# Altium footprint library PcbLib.PcbLib: 23 footprints (part 1 of 2)
Each footprint in its own frame and in the unit in brackets; x right, y up, seen from the top. Pads: shape width x height; smd on the part's side, far side on the other; paste and mask are expansions set on the pad; w line width, h text height; cw(c..) or ccw(c..) is an arc to the next point about the centre after c.
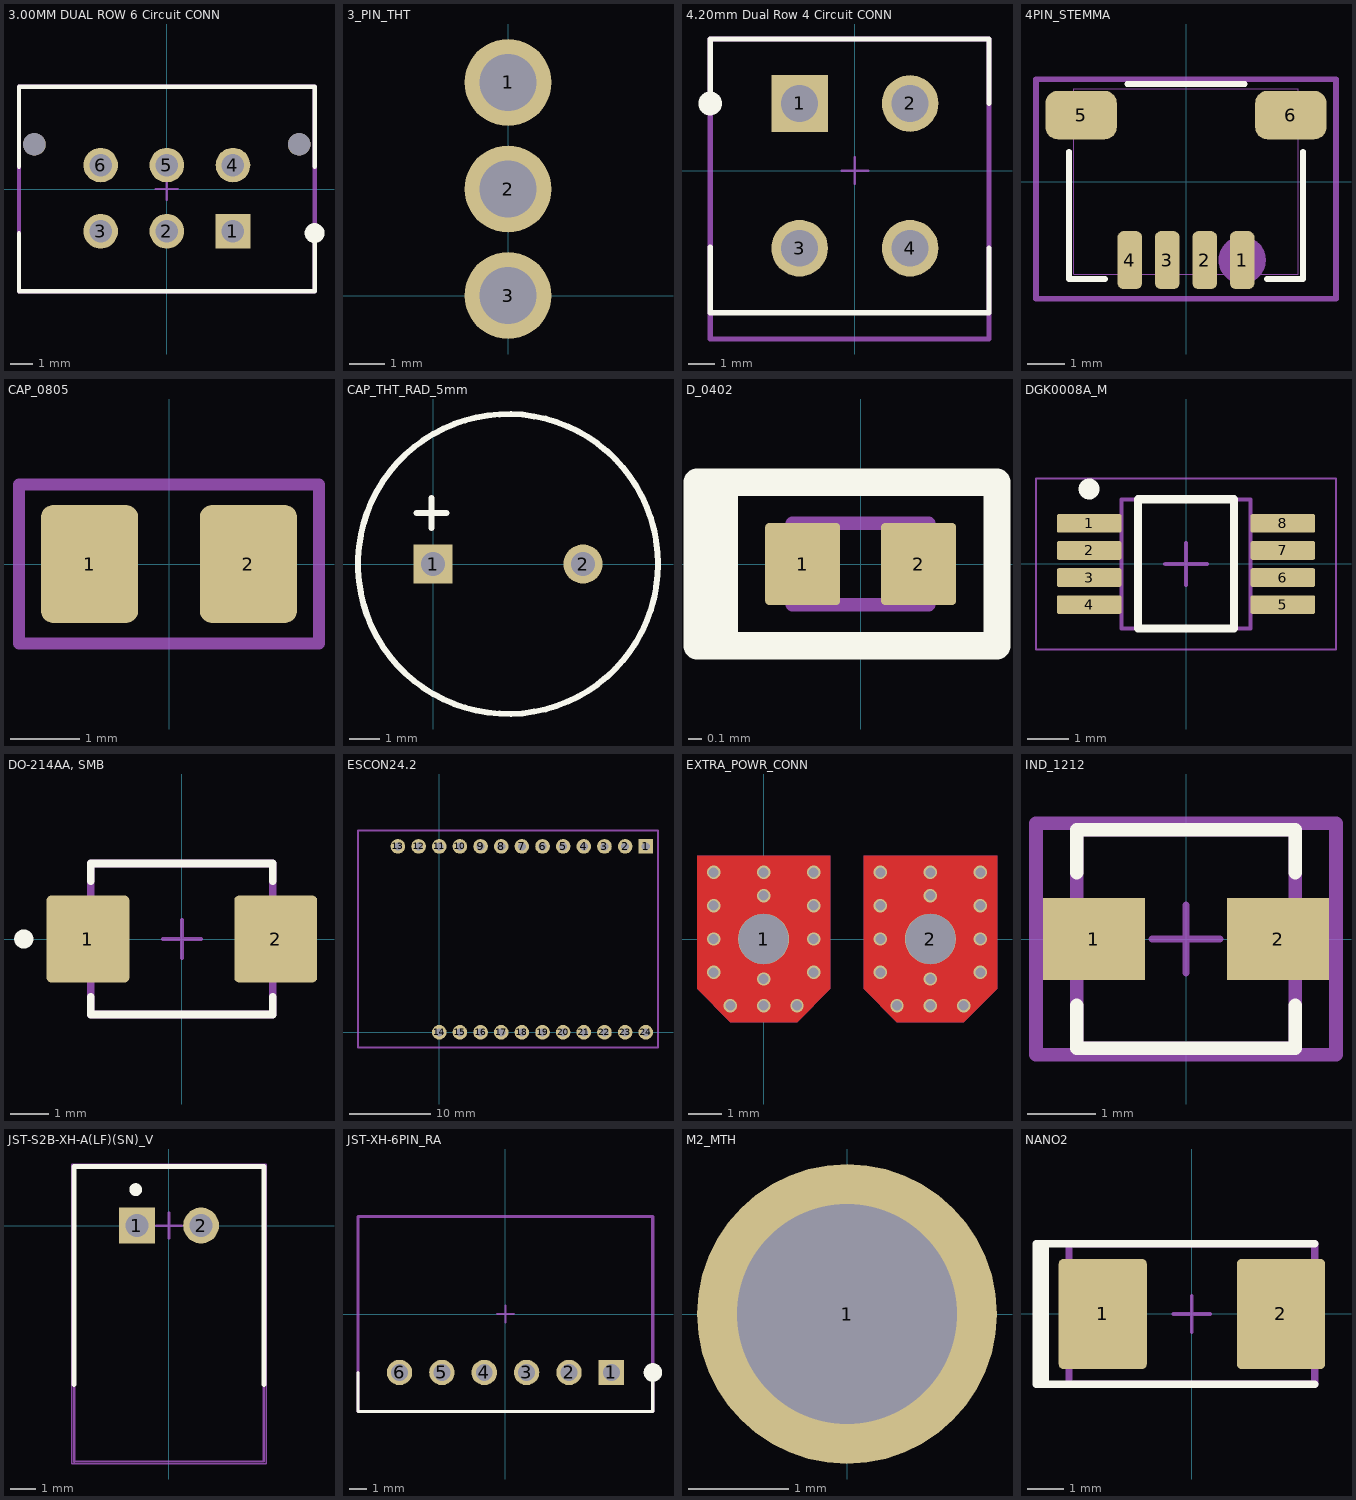
[diagram p0: the footprints below, top view; thin cyan lines are the x and y axes]

## 3.00MM DUAL ROW 6 Circuit CONN [mm]
pads (8):
  rect 1.57x1.57 hole 1.02 paste-2539.97 mask+0: 1(3,-1.915)
  round 1.57 hole 1.02 paste-2539.97 mask+0: 2(0,-1.915) 3(-3,-1.915) 4(3,1.085) 5(0,1.085) 6(-3,1.085)
  round 1.02 hole 1.02 unplated paste-2539.97 mask+0: ""(-6,2.025) ""(6,2.025)
Top Overlay:
  circle w0.5: c6.7,-2 r0.2
  lines w0.2: -6.7,-2 -6.7,-4.635 6.7,-4.635 6.7,-2 ; -6.7,1 -6.7,4.635 6.7,4.635 6.7,1
Mechanical 1:
  text ".Designator" at 0,0.188 h1
Top 3D Body:
  lines w0.2: -6.7,-4.635 -6.7,4.635 6.7,4.635 6.7,-4.635 -6.7,-4.635
Top Component Center:
  lines w0.1: -0.5,0 0.5,0 ; 0,-0.5 0,0.5
3D body "Conn_Molex_43045-0627_eec.STEP": height 0.25, standoff 0, extent -6.8,-4.735 6.8,4.735

## 3_PIN_THT [mm]
pads (3):
  round 2.45 hole 1.6 paste-2539.97 mask+0: 1(0,6) 2(0,3) 3(0,0)

## 4.20mm Dual Row 4 Circuit CONN [mm]
pads (4):
  rect 2.15x2.15 hole 1.4 paste-2539.97 mask+0: 1(-2.1,2.55)
  round 2.15 hole 1.4 paste-2539.97 mask+0: 2(2.1,2.55) 3(-2.1,-2.95) 4(2.1,-2.95)
Top Overlay:
  circle w0.5: c-5.5,2.55 r0.2
  lines w0.2: -5.5,-2.9 -5.5,-5.4 5.1,-5.4 5.1,-2.95 ; -5.5,2.55 -5.5,5 5.1,5 5.1,2.55
Mechanical 1:
  text ".Designator" at 0.1,-0.512 h1
Top 3D Body:
  lines w0.2: -5.5,-6.4 5.1,-6.4 5.1,5 -5.5,5 -5.5,-6.4
Top Component Center:
  lines w0.1: -0.5,0 0.5,0 ; 0,-0.5 0,0.5
3D body "Conn_Molex_0039281043_eec.STEP": height 0.25, standoff 0, extent -5.6,-6.5 5.8,5.1

## 4PIN_STEMMA [mil]
pads (6):
  rrect50% 26x61 smd paste+0 mask+0: 1(59.06,-82.62) 2(19.68,-82.62) 3(-19.68,-82.62) 4(-59.06,-82.62)
  rrect50% 75x51 smd paste+0 mask+0: 5(-110.24,69.94) 6(110.24,69.94)
Top Overlay:
  lines w6: -123,31.34 -123,-102.5 -85.16,-102.5 ; -61.7,102.5 61.7,102.5 ; 85.16,-102.5 123,-102.5 123,31.34
Top 3D Body:
  circle w20: c59.06,-82.62 r15
  lines w1: -118,-97.5 118,-97.5 118,97.5 -118,97.5 -118,-97.5
  text ".Designator" at -75,-20 h50
Top Courtyard:
  lines w6: -157.74,-123.12 -157.74,107.5 157.74,107.5 157.74,-123.12 -157.74,-123.12
3D body "SM04B-SRSS-TB.STEP": height 117.03, standoff 0.49, extent -118.11,-99.85 118.11,95

## CAP_0805 [mm]
pads (2):
  rrect25% 1.4x1.7 smd: 1(-1.143,0) 2(1.143,0)
Top Component Outline:
  lines w0.175: -2.159,-1.143 2.159,-1.143 2.159,1.143 -2.159,1.143 -2.159,-1.143
  text "'.Designator'" at -5.665,-0.417 h1
3D body "C0805.stp": height 1.01, standoff 0.01, extent -1.15,-0.762 1.15,0.788

## CAP_THT_RAD_5mm [mm]
pads (2):
  rect 1.3x1.3 hole 0.8: 1(0,0)
  round 1.3 hole 0.8: 2(5,0)
Top Overlay:
  circle w0.2: c2.5,0 r5
  lines w0.2: -0.558,1.7 0.458,1.7 ; -0.05,1.192 -0.05,2.208
Mechanical 1:
  text ".Designator" at 2.6,0.232 h0.7
3D body "EEU-FR1J121.STEP": height 16.01, standoff -16.99, extent -2.485,-4.99 7.5,4.99

## D_0402 [mm] "DFN, 2-Leads, Body 0.60x1.00mm, Pitch 0.65mm, IPC Medium Density"
height 0.45
pads (2):
  rrect10% 0.55x0.6 smd mask+0.07: 1(-0.425,0) 2(0.425,0)
Top Overlay:
  lines w0.2: -1.1,0.6 -1.1,-0.6 -1,-0.6 ; -1,-0.6 -1,0.6 ; -1,-0.6 0,-0.6 1,-0.6 1,0.6 0,0.6 -1,0.6 ; -1,-0.6 -1.2,-0.6 -1.2,0.6 -1,0.6
Mechanical 1:
  lines w0.1: -0.5,-0.3 0.5,-0.3 0.5,0.3 -0.5,0.3 -0.5,-0.3
  text ".Designator" at 0.1,0.232 h0.7
3D body: height 0.45, standoff 0, extent -0.5,-0.3 0.5,0.3

## DGK0008A_M [mm] "TSOP, 8-Leads, Body 3.1x3.1mm, Pitch 0.65mm, IPC Low Density"
height 1.1
pads (8):
  rrect22% 1.55x0.45 smd mask+0.06: 1(-2.325,0.975) 2(-2.325,0.325) 3(-2.325,-0.325) 4(-2.325,-0.975) 5(2.325,-0.975) 6(2.325,-0.325) 7(2.325,0.325) 8(2.325,0.975)
Top Overlay:
  circle w0.25: c-2.325,1.8 r0.125
  lines w0.2: -1.15,-1.55 1.15,-1.55 1.15,1.55 -1.15,1.55 -1.15,-1.55
Mechanical 1:
  text ".Designator" at -1.397,-0.254 h0.7
Top 3D Body:
  lines w0.1: -1.55,-1.55 1.55,-1.55 1.55,1.55 -1.55,1.55 -1.55,-1.55
Top Courtyard:
  lines w0.05: -3.6,-2.05 3.6,-2.05 3.6,2.05 -3.6,2.05 -3.6,-2.05
  lines w0.1: -0.5,0 0.5,0 ; 0,-0.5 0,0.5
3D body "MUY08A_ASM.stp": height 0.94, standoff -0.02, extent -2.451,-1.499 2.451,1.499

## DO-214AA, SMB [mm]
pads (2):
  rrect10% 2.16x2.26 smd paste+0 mask+0: 1(-2.45,0) 2(2.45,0)
Top Overlay:
  circle w0.25: c-4.125,0 r0.125
  lines w0.2: -2.375,-1.505 -2.375,-1.97 2.375,-1.97 2.375,-1.505 ; -2.375,1.505 -2.375,1.97 2.375,1.97 2.375,1.505
Mechanical 1:
  text ".Designator" at 0,0.188 h1
Top 3D Body:
  lines w0.2: -2.375,-1.97 2.375,-1.97 2.375,1.97 -2.375,1.97 -2.375,-1.97
Top Component Center:
  lines w0.1: -0.5,0 0.5,0 ; 0,-0.5 0,0.5
3D body "Diode_Littelfuse_Inc_SMBJ33A_eec.STEP": height 0.25, standoff 0, extent -3.63,-2.07 3.63,2.07

## ESCON24.2 [mm]
pads (24):
  rect 1.8x1.8 hole 1: 1(25.4,22.86)
  round 1.8 hole 1: 2(22.86,22.86) 3(20.32,22.86) 4(17.78,22.86) 5(15.24,22.86) 6(12.7,22.86) 7(10.16,22.86) 8(7.62,22.86) 9(5.08,22.86) 10(2.54,22.86) 11(0,22.86) 12(-2.54,22.86) 13(-5.08,22.86) 14(0,0) 15(2.54,0) 16(5.08,0) 17(7.62,0) 18(10.16,0) 19(12.7,0) 20(15.24,0) 21(17.78,0) 22(20.32,0) 23(22.86,0) 24(25.4,0)
Mechanical 1:
  lines w0.2: -9.987,-1.86 26.9,-1.86 26.9,24.81 -9.987,24.81 -9.987,-1.86
  text ".Designator" at 8,11.188 h1
3D body "466023_escon_module_24-2.stp": height 7.01, standoff -5.99, extent -9.987,-1.86 26.9,24.81

## EXTRA_POWR_CONN [mm]
pads (2):
  round 1.525 hole 1.5 paste-2539.97: 1(0,0) 2(5,0)
via 5,2 diameter 0.4 hole 0.305
via 5,-2 diameter 0.4 hole 0.305
via 4,-2 diameter 0.4 hole 0.305
via 6,-2 diameter 0.4 hole 0.305
via 3.5,1 diameter 0.4 hole 0.305
via 6.5,1 diameter 0.4 hole 0.305
via 6.5,-1 diameter 0.4 hole 0.305
via 3.5,-1 diameter 0.4 hole 0.305
via 3.5,2 diameter 0.4 hole 0.305
via 6.5,2 diameter 0.4 hole 0.305
via 5,1.3 diameter 0.4 hole 0.305
via 5,-1.2 diameter 0.4 hole 0.305
via 6.5,0 diameter 0.4 hole 0.305
via 3.5,0 diameter 0.4 hole 0.305
via 0,2 diameter 0.4 hole 0.305
via 0,-2 diameter 0.4 hole 0.305
via -1,-2 diameter 0.4 hole 0.305
via 1,-2 diameter 0.4 hole 0.305
via -1.5,1 diameter 0.4 hole 0.305
via 1.5,1 diameter 0.4 hole 0.305
via 1.5,-1 diameter 0.4 hole 0.305
via -1.5,-1 diameter 0.4 hole 0.305
via -1.5,2 diameter 0.4 hole 0.305
via 1.5,2 diameter 0.4 hole 0.305
via 0,1.3 diameter 0.4 hole 0.305
via 0,-1.2 diameter 0.4 hole 0.305
via 1.5,0 diameter 0.4 hole 0.305
via -1.5,0 diameter 0.4 hole 0.305
Top Layer:
  region: 3,-1.5 4,-2.5 6,-2.5 7,-1.5 7,2.5 3,2.5
  region: -2,-1.5 -1,-2.5 1,-2.5 2,-1.5 2,2.5 -2,2.5
Bottom Layer:
  region: 3,-1.5 4,-2.5 6,-2.5 7,-1.5 7,2.5 3,2.5
  region: -2,-1.5 -1,-2.5 1,-2.5 2,-1.5 2,2.5 -2,2.5

## IND_1212 [mm]
pads (2):
  rect 1.5x1.2 smd paste+0 mask+0: 1(-1.35,0) 2(1.35,0)
Top Overlay:
  lines w0.2: -1.6,-0.975 -1.6,-1.6 1.6,-1.6 1.6,-0.975 ; -1.6,0.975 -1.6,1.6 1.6,1.6 1.6,0.975
Top Assembly:
  lines w0.2: -2.2,-1.7 2.2,-1.7 2.2,1.7 -2.2,1.7 -2.2,-1.7
  text ".Designator" at 0,0.188 h1
Top 3D Body:
  lines w0.2: -1.6,-1.6 1.6,-1.6 1.6,1.6 -1.6,1.6 -1.6,-1.6
Top Courtyard:
  lines w0.2: -2.2,-1.7 2.2,-1.7 2.2,1.7 -2.2,1.7 -2.2,-1.7
Top Component Center:
  lines w0.1: -0.5,0 0.5,0 ; 0,-0.5 0,0.5
3D body "Ind_Vishay_IHLP1212BZER2R2M11_eec.STEP": height 0.25, standoff 0, extent -2.2,-1.7 2.2,1.7

## JST-S2B-XH-A(LF)(SN)_V [mm] "Header, 2-Leads, Body 7.4x11.5mm, Pitch 2.5mm"
height 6.1
pads (2):
  rect 1.4x1.4 hole 0.9: 1(-1.25,0)
  round 1.4 hole 0.9: 2(1.25,0)
Top Overlay:
  circle w0.25: c-1.3,1.4 r0.125
  lines w0.2: -3.7,-6.195 -3.7,2.286 ; -3.697,2.3 -3.7,2.3 3.7,2.3 ; 3.7,-6.195 3.7,2.286
Top 3D Body:
  lines w0.1: -3.7,-9.214 3.7,-9.2 3.7,2.3 -3.7,2.3 -3.7,-9.214
Top Courtyard:
  lines w0.05: -3.8,-9.3 3.8,-9.3 3.8,2.4 -3.8,2.4 -3.8,-9.3
  lines w0.1: -0.5,0 0.5,0 ; 0,-0.5 0,0.5
3D body "S2B-XH-A -LF--SN---3DModel-STEP-1.STEP": height 5.71, standoff -3.79, extent -3.7,-9.214 3.7,2.286

## JST-XH-6PIN_RA [mm]
pads (6):
  rect 1.5x1.5 hole 1 paste-2539.97 mask+0: 1(6.25,-3.45)
  round 1.5 hole 1 paste-2539.97 mask+0: 2(3.75,-3.45) 3(1.25,-3.45) 4(-1.25,-3.45) 5(-3.75,-3.45) 6(-6.25,-3.45)
Top Overlay:
  circle w0.5: c8.7,-3.45 r0.3
  lines w0.2: -8.7,-3.45 -8.7,-5.75 8.7,-5.75 8.7,-3.45
Mechanical 1:
  text ".Designator" at 0,0.188 h1
Top 3D Body:
  lines w0.2: -8.7,-5.75 8.7,-5.75 8.7,5.75 -8.7,5.75 -8.7,-5.75
Top Component Center:
  lines w0.1: -0.5,0 0.5,0 ; 0,-0.5 0,0.5
3D body "Conn_JST_S6B-XH-A_LF_SN_eec.STEP": height 0.25, standoff 0, extent -8.8,-5.85 8.8,5.85

## M2_MTH [mm]
pads (1):
  round 3 hole 2.2 paste-2539.97: 1(0,0)

## NANO2 [mm]
pads (2):
  rrect10% 2.4x3 smd paste+0 mask+0: 1(-2.43,0) 2(2.43,0)
Top Overlay:
  lines w0.2: -4.125,-1.915 -4.125,1.915 -4,1.915 ; 3.35,-1.915 -3.35,-1.915 ; 3.35,1.915 -3.35,1.915 -4,1.915 ; -4,-1.915 -4,1.915 ; -4,-1.915 -3.35,-1.915 ; -4,-1.915 -4,1.915 ; -4,1.915 -4.25,1.915 -4.25,-1.915 -3.35,-1.915
Mechanical 1:
  text ".Designator" at 0,0.188 h1
Top 3D Body:
  lines w0.2: -3.35,-1.915 3.35,-1.915 3.35,1.915 -3.35,1.915 -3.35,-1.915
Top Component Center:
  lines w0.1: -0.5,0 0.5,0 ; 0,-0.5 0,0.5
3D body "Fuse_Littelfuse_Inc_0157004_DR_eec.STEP": height 0.25, standoff 0, extent -3.73,-2.015 3.73,2.015